# Altium footprint library EP3C25.PcbLib: 25 footprints (part 2 of 2)
Each footprint in its own frame and in the unit in brackets; x right, y up, seen from the top. Pads: shape width x height; smd on the part's side, far side on the other; paste and mask are expansions set on the pad; w line width, h text height; cw(c..) or ccw(c..) is an arc to the next point about the centre after c.
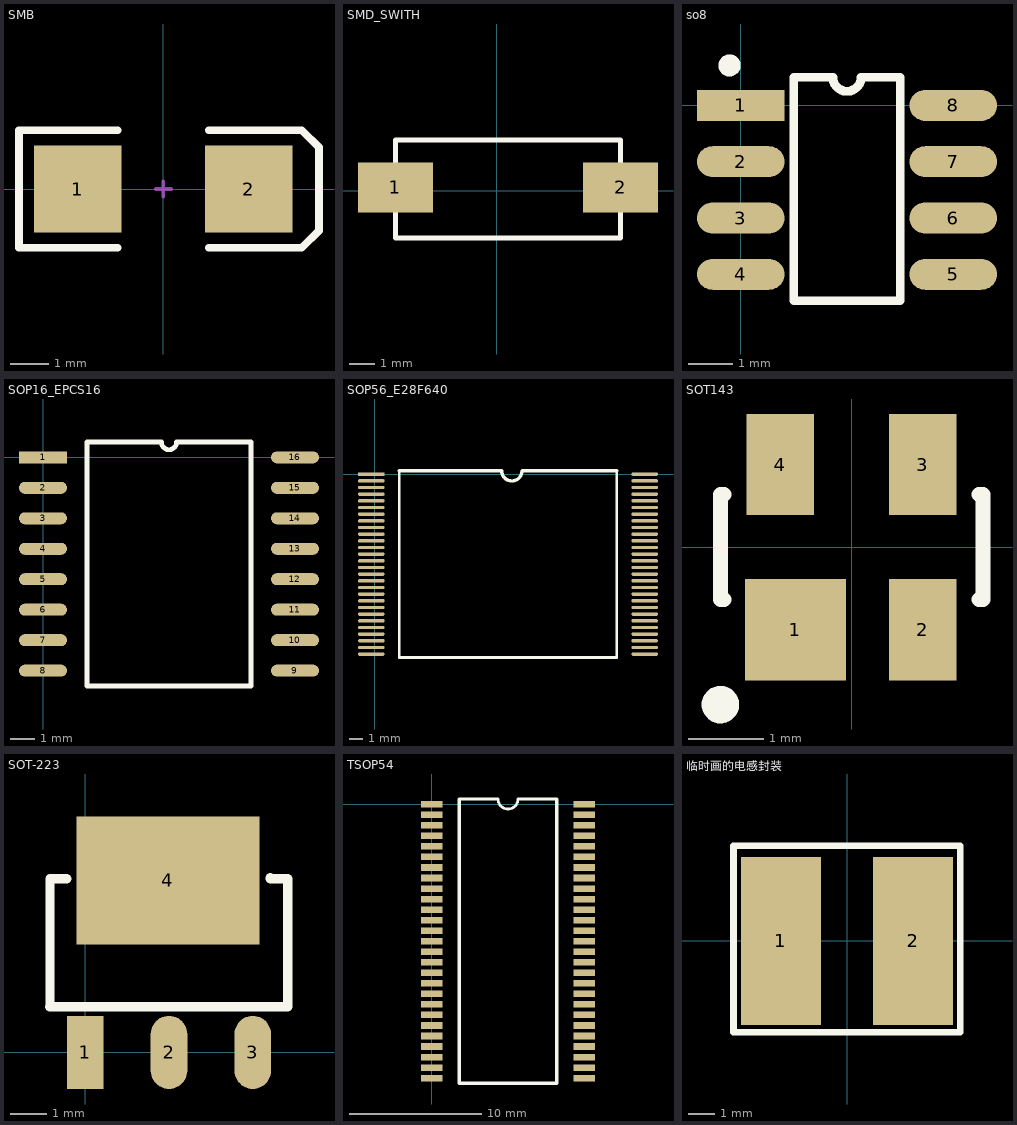
[diagram p1: the footprints below, top view; thin cyan lines are the x and y axes]

## SMB [mm] "DO-214-AA/SMB; 2 C-Bend Leads; Body 5.3 x 3.6 mm, inc. leads (LxW)"
height 2.54
pads (2):
  rect 2.3x2.3 smd: 1(-2.25,0) 2(2.25,0)
Top Overlay:
  lines w0.2: -1.2,-1.55 -3.8,-1.55 -3.8,1.55 -1.2,1.55 ; 1.2,-1.55 3.65,-1.55 4.1,-1.1 4.1,1.1 3.65,1.55 1.2,1.55
Mechanical 1:
  lines w0.1: -0.2,0 0.2,0 ; 0,-0.2 0,0.2

## SMD_SWITH [mm]
pads (2):
  rect 3x2 smd: 1(-4.064,0.127) 2(4.953,0.127)
Top Overlay:
  lines w0.203: -4.064,-1.905 -4.064,2.032 4.953,2.032 4.953,-1.905 -4.064,-1.905

## so8 [mm] "EP3特色的SO8，瘦版。"
pads (8):
  rect 1.973x0.7 smd: 1(0,0)
  oval 1.973x0.7 smd: 2(0,-1.27) 3(0,-2.54) 4(0,-3.81) 5(4.792,-3.81) 6(4.792,-2.54) 7(4.792,-1.27) 8(4.792,0)
Top Overlay:
  circle w0.25: c-0.254,0.9 r0.125
  lines w0.2: 1.196,0.595 1.196,-4.405 3.596,-4.405 3.596,0.595 ; 1.196,0.635 2.078,0.635 ccw(c2.396,0.635) 2.713,0.635 3.596,0.635

## SOP16_EPCS16 [mm]
pads (16):
  rect 2x0.5 smd: 1(0,0)
  oval 2x0.5 smd: 2(0,-1.27) 3(0,-2.54) 4(0,-3.81) 5(0,-5.08) 6(0,-6.35) 7(0,-7.62) 8(0,-8.89) 9(10.5,-8.89) 10(10.5,-7.62) 11(10.5,-6.35) 12(10.5,-5.08) 13(10.5,-3.81) 14(10.5,-2.54) 15(10.5,-1.27) 16(10.5,0)
Top Overlay:
  lines w0.2: 1.835,-9.525 8.665,-9.525 8.665,0.635 5.567,0.635 cw(c5.25,0.635) 4.932,0.635 1.835,0.635 1.835,-9.525

## SOP56_E28F640 [mm]
pads (56):
  rect 2x0.25 smd: 1(-0.254,0)
  oval 2x0.25 smd: 2(-0.254,-0.5) 3(-0.254,-1) 4(-0.254,-1.5) 5(-0.254,-2) 6(-0.254,-2.5) 7(-0.254,-3) 8(-0.254,-3.5) 9(-0.254,-4) 10(-0.254,-4.5) 11(-0.254,-5) 12(-0.254,-5.5) 13(-0.254,-6) 14(-0.254,-6.5) 15(-0.254,-7) 16(-0.254,-7.5) 17(-0.254,-8) 18(-0.254,-8.5) 19(-0.254,-9) 20(-0.254,-9.5) 21(-0.254,-10) 22(-0.254,-10.5) 23(-0.254,-11) 24(-0.254,-11.5) 25(-0.254,-12) 26(-0.254,-12.5) 27(-0.254,-13) 28(-0.254,-13.5) 29(20.254,-13.5) 30(20.254,-13) 31(20.254,-12.5) 32(20.254,-12) 33(20.254,-11.5) 34(20.254,-11) 35(20.254,-10.5) 36(20.254,-10) 37(20.254,-9.5) 38(20.254,-9) 39(20.254,-8.5) 40(20.254,-8) 41(20.254,-7.5) 42(20.254,-7) 43(20.254,-6.5) 44(20.254,-6) 45(20.254,-5.5) 46(20.254,-5) 47(20.254,-4.5) 48(20.254,-4) 49(20.254,-3.5) 50(20.254,-3) 51(20.254,-2.5) 52(20.254,-2) 53(20.254,-1.5) 54(20.254,-1) 55(20.254,-0.5) 56(20.254,0)
Top Overlay:
  lines w0.2: 1.835,0.25 1.835,-13.75 18.165,-13.75 18.165,0.25
  lines w0.254: 1.835,0.25 9.521,0.25 ccw(c10.287,0.254) 11.053,0.254 18.161,0.254

## SOT143 [mm]
pads (4):
  rect 1.35x1.35 smd: 1(-0.75,-1.1)
  rect 0.9x1.35 smd: 2(0.95,-1.1) 3(0.95,1.1) 4(-0.95,1.1)
Top Overlay:
  circle w0.25: c-1.75,-2.1 r0.125
  lines w0.2: -1.7,-0.7 -1.75,-0.7 -1.75,0.7 -1.7,0.7 ; 1.7,-0.7 1.75,-0.7 1.75,0.7 1.7,0.7

## SOT-223 [mm]
pads (4):
  rect 1x2 smd: 1(0,0)
  oval 1x2 smd: 2(2.29,0) 3(4.58,0)
  rect 5x3.5 smd: 4(2.261,4.699)
Top Overlay:
  lines w0.254: -0.965,1.25 5.537,1.25 5.537,4.75 5.055,4.75 5.055,4.775 ; -0.963,1.25 -0.963,4.75 -0.508,4.75

## TSOP54 [mm]
pads (54):
  rect 1.651x0.5 smd: 1(-0.003,0) 2(-0.003,-0.8) 3(-0.003,-1.6) 4(-0.003,-2.4) 5(-0.003,-3.2) 6(-0.003,-4) 7(-0.003,-4.8) 8(-0.003,-5.6) 9(-0.003,-6.4) 10(-0.003,-7.2) 11(-0.003,-8) 12(-0.003,-8.8) 13(-0.003,-9.6) 14(-0.003,-10.4) 15(-0.003,-11.2) 16(-0.003,-12) 17(-0.003,-12.8) 18(-0.003,-13.6) 19(-0.003,-14.4) 20(-0.003,-15.2) 21(-0.003,-16) 22(-0.003,-16.8) 23(-0.003,-17.6) 24(-0.003,-18.4) 25(-0.003,-19.2) 26(-0.003,-20) 27(-0.003,-20.8) 28(11.597,-20.8) 29(11.597,-20) 30(11.597,-19.2) 31(11.597,-18.4) 32(11.597,-17.6) 33(11.597,-16.8) 34(11.597,-16) 35(11.597,-15.2) 36(11.597,-14.4) 37(11.597,-13.6) 38(11.597,-12.8) 39(11.597,-12) 40(11.597,-11.2) 41(11.597,-10.4) 42(11.597,-9.6) 43(11.597,-8.8) 44(11.597,-8) 45(11.597,-7.2) 46(11.597,-6.4) 47(11.597,-5.6) 48(11.597,-4.8) 49(11.597,-4) 50(11.597,-3.2) 51(11.597,-2.4) 52(11.597,-1.6) 53(11.597,-0.8) 54(11.597,0)
Top Overlay:
  lines w0.203: 5.035,0.4 ccw(c5.797,0.4) 6.559,0.4
  lines w0.254: 5.035,0.4 2.082,0.4 2.082,-21.2 9.512,-21.2 9.512,0.4 6.559,0.4

## 临时画的电感封装 [mm] "用于EP3C25核心板复制"
pads (2):
  rect 3x6.3 smd: 1(-2.476,0) 2(2.476,0)
Top Overlay:
  lines w0.254: -4.255,-3.429 -4.255,3.571 4.246,3.571 4.246,-3.429 -4.255,-3.429